# Altium schematic symbol library ap-pam.SchLib: 10 symbols
Pins are listed as number, name and electrical type; pins without a type are passive.

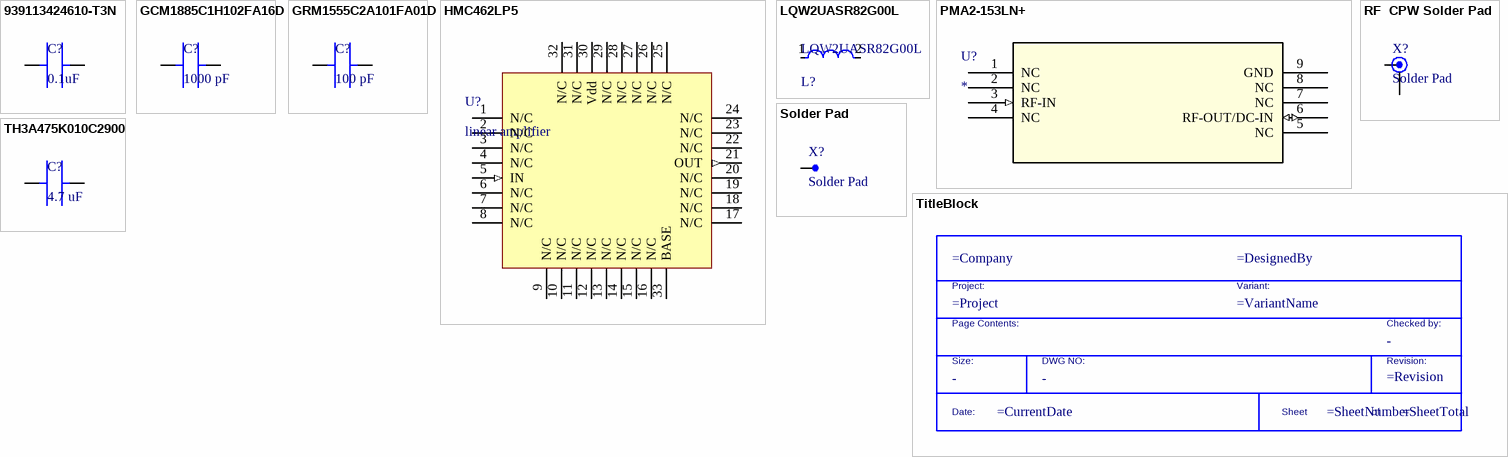
[diagram p0: symbols 939113424610-T3N to TitleBlock]

## 939113424610-T3N
designator C?, comment 0.1uF
CAP SILICON 0.1UF 15% 11V 0402; Manufacturer: Murata; Manufacturer Part Number: 939113424610-T3N; Supplier: Avnet; Supplier Part Number: 939113424610-T3N; RoHS: No; Category: Capacitors; Pricing: 1000=7.905, 2000=7.719, 4000=7.533, 6000=7.347, 8000=7.161 (USD)
footprint C0402
pins: 1, 2

## GCM1885C1H102FA16D
designator C?, comment 1000 pF
Ceramic Capacitor, Multilayer, Ceramic, 50V, 1% +Tol, 1% -Tol, C0G, 30ppm/Cel TC, 0.001uF, Surface Mount, 0603; Manufacturer: Murata; Manufacturer Part Number: GCM1885C1H102FA16D; Value: 1nF; Multilayer: Yes; Reference Standard: AEC-Q200; Supplier: Mouser; Supplier Part Number: 81-GCM1885C1H102FA6D; RoHS: Yes; Category: Ceramic Capacitors; Stock: 27229; Pricing: 1=0.35, 10=0.229, 50=0.229, 100=0.138, 1000=0.092, 10000=0.074 (USD); Mounting Technology: Surface Mount; Pins: 2; Dielectric Material: Ceramic; Package Shape: Rectangular; Case/Package: 0603; Min Operating Temperature: -55°C; Max Operating Temperature: 125°C; Capacitor Type: Ceramic; Tolerance  (fill in as +-): 1%; Packaging: Tape and Reel; Tolerance (fill in as +-): 1%; Rated DC Voltage (URdc): 50V; Temperature Characteristics Code: C0G; Termination: Wraparound; Reach SVHC Compliant: Yes; RoHS Compliant: Yes; ComponentLink1URL: https://datasheet.ciiva.com:443/pdfs/VipMasterIC/IC/MURE/MURE-S-A0004370842/MURE-S-A0004372260-1.pdf?src-supplier=IHS+Markit; ComponentLink1Description: https://datasheet.ciiva.com:443/pdfs/VipMasterIC/IC/MURE/MURE-S-A0004370842/MURE-S-A0004372260-1.pdf?src-supplier=IHS+Markit
footprint C1000pF
pins: 1, 2

## GRM1555C2A101FA01D
designator C?, comment 100 pF
Multilayer Ceramic Capacitors MLCC - SMD/SMT 100 pF 100 VDC 1% 0402 C0G (NP0); Manufacturer: Murata; Manufacturer Part Number: GRM1555C2A101FA01D; Supplier: Mouser; Supplier Part Number: 81-GRM1555C2A11FA1D; RoHS: No; Stock: 21646; Pricing: 1=0.18, 10=0.119, 50=0.119, 100=0.06, 1000=0.039, 10000=0.035 (USD)
footprint C100pF
pins: 1, 2

## HMC462LP5
designator U?, comment linear amplifier
Wide Band Low Power Amplifier, 2000MHz Min, 20000MHz Max, 1 Func, GAAS; Manufacturer: Analog Devices; Manufacturer Part Number: HMC462LP5; Package Body Material: Plastic; Channels: 1; Package Equivalence Code: LCC32,.2SQ,20; Power Supplies: 5V; Characteristic Impedance: 50R; Gain: 10dB; Operating Frequency-Max: 20GHz; Operating Frequency-Min: 2GHz; Supplier: Mouser; Supplier Part Number: 584-HMC462LP5; RoHS: No; Category: RF Amplifiers; Stock: 3; Pricing: 1=255.72, 10=223.37, 50=223.37, 100=223.37, 1000=223.37, 10000=223.37 (USD); Mounting Technology: Surface Mount; Pins: 32; Terminal Finish: Tin; Min Operating Temperature: -40°C; Max Operating Temperature: 85°C; RF/Microwave Device Type: WIDE BAND LOW POWER; Technology: GAAS; JESD-609 Code: e0; Construction: COMPONENT; Reach SVHC Compliant: Yes; RoHS Compliant: No; ComponentLink1URL: https://datasheet.ciiva.com:443/pdfs/VipMasterIC/IC/HTMW/HTMWS06009/HTMWS06009-1.pdf?src-supplier=IHS+Markit; ComponentLink1Description: https://datasheet.ciiva.com:443/pdfs/VipMasterIC/IC/HTMW/HTMWS06009/HTMWS06009-1.pdf?src-supplier=IHS+Markit; ComponentLink2URL: http://www.mouser.com/ds/2/609/hmc462lp5-468009.pdf?src-supplier=Mouser; ComponentLink2Description: http://www.mouser.com/ds/2/609/hmc462lp5-468009.pdf?src-supplier=Mouser; ComponentLink3URL: http://www.hittite.com/content/documents/data_sheet/hmc462lp5.pdf?src-supplier=Avnet; ComponentLink3Description: http://www.hittite.com/content/documents/data_sheet/hmc462lp5.pdf?src-supplier=Avnet; ComponentLink4URL: https://www.analog.com/media/en/technical-documentation/data-sheets/hmc462.pdf?src-supplier=Digikey; ComponentLink4Description: https://www.analog.com/media/en/technical-documentation/data-sheets/hmc462.pdf?src-supplier=Digikey; ComponentLink5URL: https://datasheet.octopart.com/HMC462LP5-Analog-Devices-datasheet-34213376.pdf?src-supplier=Newark; ComponentLink5Description: https://datasheet.octopart.com/HMC462LP5-Analog-Devices-datasheet-34213376.pdf?src-supplier=Newark
footprint HMC462LP5E
pins: 1 N/C, 2 N/C, 3 N/C, 4 N/C, 5 IN (in), 6 N/C, 7 N/C, 8 N/C, 9 N/C, 10 N/C, 11 N/C, 12 N/C, 13 N/C, 14 N/C, 15 N/C, 16 N/C, 17 N/C, 18 N/C, 19 N/C, 20 N/C, 21 OUT (out), 22 N/C, 23 N/C, 24 N/C, 25 N/C, 26 N/C, 27 N/C, 28 N/C, 29 N/C, 30 Vdd (power), 31 N/C, 32 N/C, 33 BASE (power)

## LQW2UASR82G00L
designator L?
Wire Wound RF Inductor 820nH ±2% 400mA 1.61Ω 1008 (2520); Resistance: 1.61R; Self Resonant Frequency: 350MHz; Shielding: Unshielded; Test Frequency: 25MHz; Tolerance: 2%; Width: 0.096inch; Case/Package: 1008; Resistor Type: Wirewound; Inductance: 820nH; Mount: Surface Mount; Package Quantity: 2000; Min Operating Temperature: -55°C; Current Rating: 400mA; DC Resistance (DCR): 1.61R; Length: 0.103inch; Height - Seated (Max): 0.08inch; Max Operating Temperature: 125°C; Packaging: Tape and Reel
footprint FP-LQW2UAS_00-MFG
pins: 1, 2

## PMA2-153LN+
designator U?
No Description Available; Mfr_Name: Mini Circuits; RefDes: RefDes; Type: Type
footprint MC1631-1_MNC
pins: 1 NC, 2 NC, 3 RF-IN (in), 4 NC, 5 NC, 6 RF-OUT/DC-IN (io), 7 NC, 8 NC, 9 GND (power)

## RF  CPW Solder Pad
designator X?, comment Solder Pad
Solder pad for RF Coplanar Waveguide Rogers 4350B Thickness 0.020" Copper 1oz
footprint CPW Edge Connector
pins: 1, 2, 3

## Solder Pad
designator X?
Pad to solder wires to
footprint Solder Pad
pins: 1

## TH3A475K010C2900
designator C?, comment 4.7 uF
Tantalum Capacitor, Polarized, Tantalum (dry/solid), 10V, 10% +Tol, 10% -Tol, 4.7uF, Surface Mount, 1306; Manufacturer: Vishay Sprague; Manufacturer Part Number: TH3A475K010C2900; ESR (Equivalent Series Resistance): 2.9R; Leakage Current: 500nA; Ripple Current: 160mA; Tan Delta: 0.06; Reference Standard: AEC-Q200; Supplier: Future Electronics; Supplier Part Number: 4924098; RoHS: Yes; Category: Tantalum Capacitors; Stock: 2000; Pricing: 2000=0.178, 4000=0.175, 6000=0.173, 8000=0.171, 10000=0.166 (USD); Mounting Technology: Surface Mount; Pins: 2; Dielectric Material: Tantalum; Package Shape: Rectangular; Case/Package: 1206; Terminal Finish: Tin; Min Operating Temperature: -55°C; Max Operating Temperature: 150°C; JESD-609 Code: e3; Polarity: Polarized; Value: 4.7uF; Capacitor Type: Tantalum; Tolerance  (fill in as +-): 10%; Package Style: SMTMeter; Packaging: Tape and Reel; Tolerance (fill in as +-): 10%; Rated DC Voltage (URdc): 10V; Termination: J BEND; Length: 3.2mm; Width: 1.6mm; Height: 1.6mm; Reach SVHC Compliant: Yes; RoHS Compliant: Yes; ComponentLink1URL: https://datasheet.ciiva.com:443/pdfs/VipMasterIC/IC/VISH/VISH-S-A0010085390/VISH-S-A0010085390-1.pdf?src-supplier=IHS+Markit; ComponentLink1Description: https://datasheet.ciiva.com:443/pdfs/VipMasterIC/IC/VISH/VISH-S-A0010085390/VISH-S-A0010085390-1.pdf?src-supplier=IHS+Markit; ComponentLink2URL: https://datasheet.ciiva.com/268/th3-268785.pdf?src-supplier=Digikey; ComponentLink2Description: https://datasheet.ciiva.com/268/th3-268785.pdf?src-supplier=Digikey; ComponentLink3URL: https://datasheet.ciiva.com/16360/th3-16360891.pdf?src-supplier=Future+Electronics; ComponentLink3Description: https://datasheet.ciiva.com/16360/th3-16360891.pdf?src-supplier=Future+Electronics
footprint C4_7uF
pins: 1, 2

## TitleBlock
designator *  (value not drawn)  (graphical)
Standard Title Block; DWG NO: -; Size: -; Checked by: -
text: Project:; Variant:; Page Contents:; Checked by:; Size:; DWG NO:; Revision:; Date:; Sheet; of